# Altium schematic symbol library OpenVizsla symbols.SchLib: 33 symbols
Pins are listed as number, name and electrical type; pins without a type are passive.

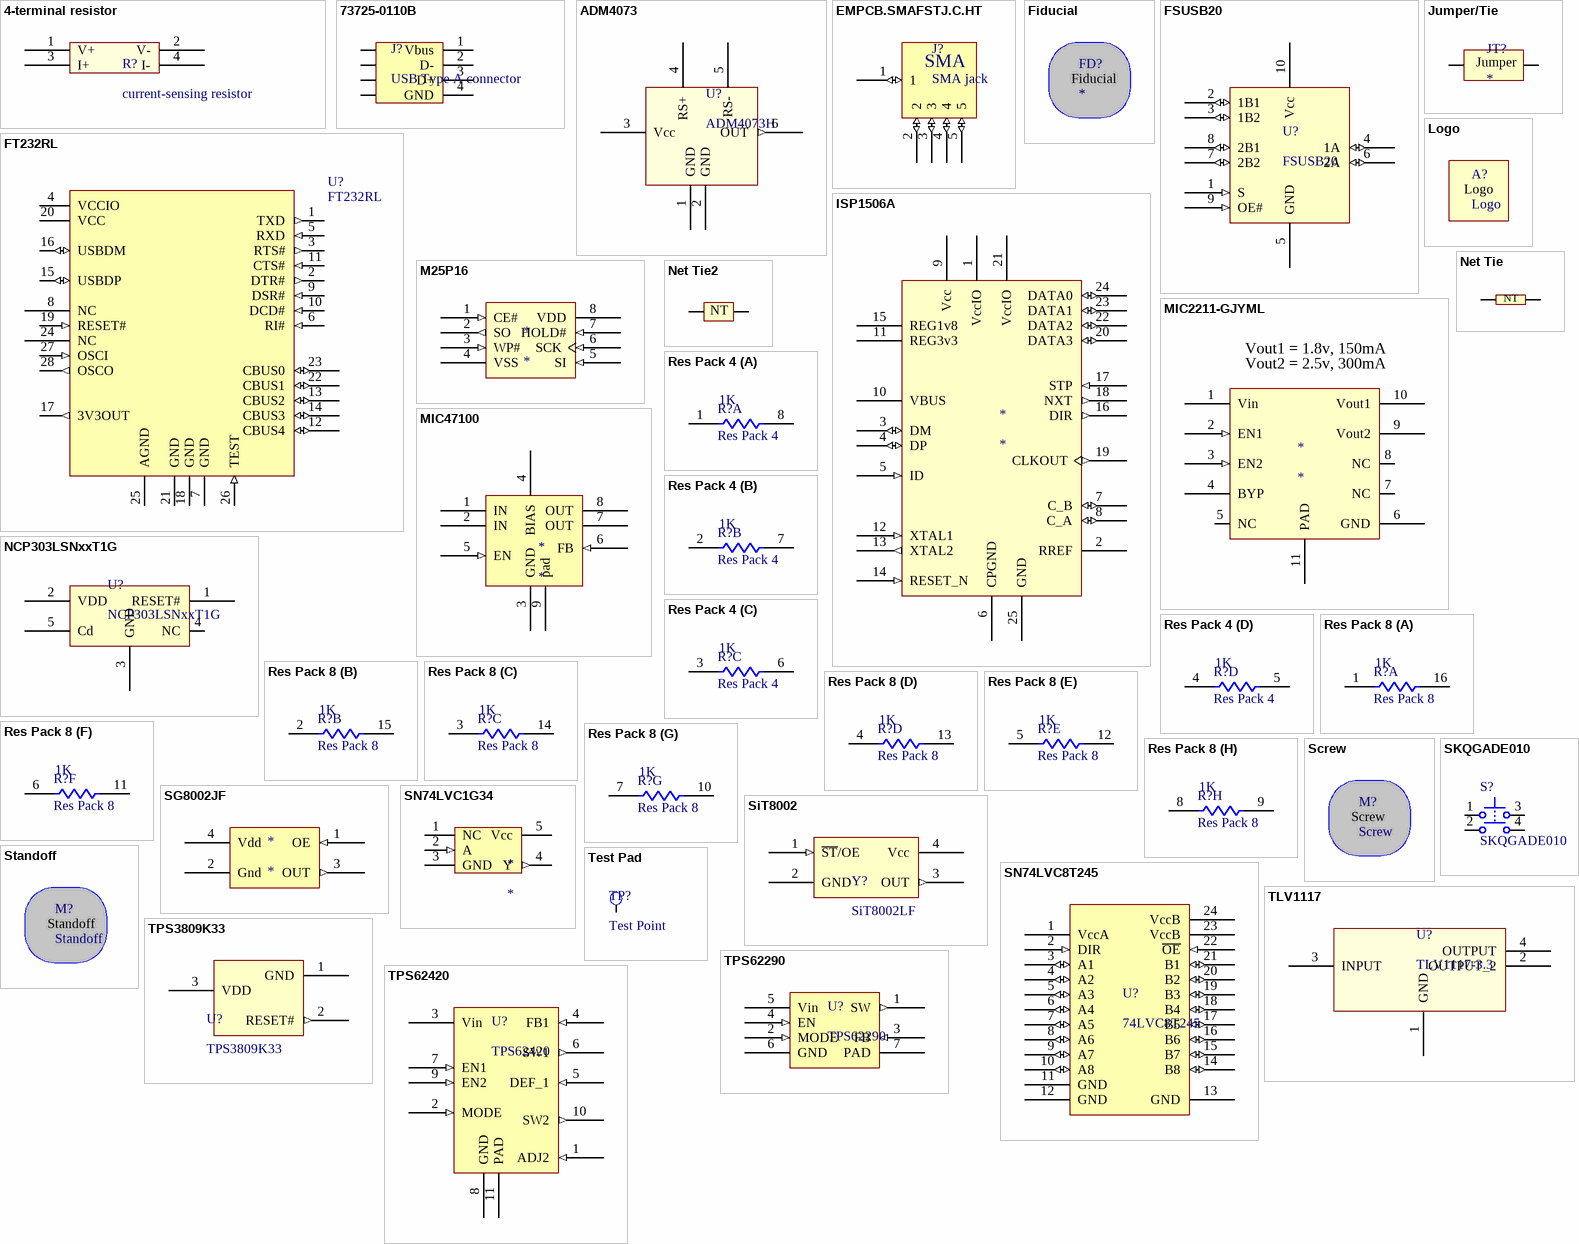
[diagram p0: symbols 4-terminal resistor to TPS62420]

## 4-terminal resistor
designator R?, comment current-sensing resistor
ComponentLink1Description: Manufacturer Link; ComponentLink2Description: Datasheet; ComponentLink2URL: http://www.ohmite.com/catalog/pdf/lvk.pdf; DigiKey Link: http://search.digikey.com/scripts/DkSearch/dksus.dll?Detail&name=LVK12R024FERCT-ND; DigiKey Price/100: 0.36; Mouser Link: http://www.mouser.com/ProductDetail/Ohmite/LVK12R024FER/?qs=o85cWoxxEjHTZDRqGrK2Qw%3d%3d; Mouser Price/100: 0.36
footprint LVK12 (4-terminal current-sensing chip resistor)
pins: 1 V+ (power), 2 V- (power), 3 I+, 4 I-

## 73725-0110B
designator J?, comment USB Type A connector
USB Type A receptacle, right angle vertical mount; ComponentLink1Description: Manufacturer Link; ComponentLink1URL: http://portal.fciconnect.com/portal/page/portal/FcicntPublic/ComergentConnect?appname=catDisplayStyle$domProductQueryName=73725-0110BLF*$OP=search; ComponentLink2Description: Datasheet; ComponentLink2URL: http://portal.fciconnect.com/res/en/pdffiles/doc_search/73725.pdf; DigiKey Link: http://search.digikey.com/scripts/DkSearch/dksus.dll?vendor=0&keywords=73725-0110BLF; DigiKey Price/100: 0.5290; Mouser Link: http://www.mouser.com/ProductDetail/FCI/73725-0110BLF/?qs=x6EjVpvqMVP%252baDTVID3rTA%3D%3D; Mouser Price/100: 0.47
footprint 73725-0110B (Connector; USB2.0, Type A, Thru-Hole; 4 Position; Right Angle; Vertical)
pins: 1 Vbus, 2 D-, 3 D+, 4 GND, 5 shield, 6 shield, 7 shield, 8 shield

## ADM4073
designator U?, comment ADM4073H
ComponentLink1Description: Manufacturer Link; ComponentLink2Description: Datasheet
footprint SOT-23_A (SOT-457/SC-74; 6 Leads; Body 3.1 x 3 mm, inc. leads (LxW max))
pins: 1 GND (power), 2 GND (power), 3 Vcc (power), 4 RS+ (power), 5 RS- (power), 6 OUT (out)

## EMPCB.SMAFSTJ.C.HT
designator J?, comment SMA jack
PCB edge mount SMA jack
footprint EMPCB.SMAFSTJ.C.HT
pins: 1 (io), 2 (io), 3 (io), 4 (io), 5 (io)
text: SMA

## Fiducial
designator FD?  (no BOM)
footprint fiducial

## FSUSB20
designator U?
ComponentLink1Description: Manufacturer Link; ComponentLink2Description: Datasheet
pins: 1 S (in), 2 1B1 (io), 3 1B2 (io), 4 1A (io), 5 GND (power), 6 2A (io), 7 2B2 (io), 8 2B1 (io), 9 OE# (in), 10 Vcc (power)

## FT232RL
designator U?
USB UART Asynchronous Serial Data Transfer Chip, LQFP-32, Pb-Free; Published: 6-Oct-2005; LatestRevisionDate: 13-Apr-2006; LatestRevisionNote: IPC-7351 Footprint Added.; DatasheetVersion: ver 1.7, Feb-2005; PackageVersion: Mar-2004; PackageReference: LQFP-32; Publisher: Altium Limited; PackageDescription: 32-Pin Thin Quad Flat Pack 0.8 mm Pitch; ComponentLink1Description: Manufacturer Link; ComponentLink1URL: http://www.ftdichip.com/Products/FT232BM.htm; ComponentLink2Description: Datasheet; ComponentLink2URL: http://www.ftdichip.com/Documents/DataSheets/ds232bl17.pdf
pins: 1 TXD (out), 2 DTR# (out), 3 RTS# (out), 4 VCCIO (power), 5 RXD (in), 6 RI# (in), 7 GND (power), 8 NC, 9 DSR# (in), 10 DCD# (in), 11 CTS# (in), 12 CBUS4 (io), 13 CBUS2 (io), 14 CBUS3 (io), 15 USBDP (io), 16 USBDM (io), 17 3V3OUT (out), 18 GND (power), 19 RESET# (in), 20 VCC (power), 21 GND (power), 22 CBUS1 (io), 23 CBUS0 (io), 24 NC, 25 AGND (power), 26 TEST (in), 27 OSCI (in), 28 OSCO (out)

## ISP1506A
designator *
ComponentLink1Description: Manufacturer Link; ComponentLink2Description: Datasheet
pins: 1 VccIO (power), 2 RREF, 3 DM (io), 4 DP (io), 5 ID (in), 6 CPGND (power), 7 C_B (io), 8 C_A (io), 9 Vcc (power), 10 VBUS (power), 11 REG3v3 (power), 12 XTAL1 (in), 13 XTAL2 (out), 14 RESET_N (in), 15 REG1v8 (power), 16 DIR (out), 17 STP (in), 18 NXT (out), 19 CLKOUT (out), 20 DATA3 (io), 21 VccIO (power), 22 DATA2 (io), 23 DATA1 (io), 24 DATA0 (io), 25 GND (power)

## Jumper/Tie
designator JT?  (net tie, no BOM)
footprint Jumper/Tie (Jumper / Net Tie)
pins: 1, 2
text: Jumper

## Logo
designator A?  (no BOM)
a silkscreen logo
footprint Altium logo (Altium logo (lines))
footprint CC-BY-NC-SA (Creative Commons Attribution/Non-Commercial/Share-Alike)

## M25P16
designator *
ComponentLink1Description: Manufacturer Link; ComponentLink2Description: Datasheet
pins: 1 CE# (in), 2 SO (out), 3 WP# (in), 4 VSS (power), 5 SI (in), 6 SCK (in), 7 HOLD# (in), 8 VDD (power)

## MIC2211-GJYML
designator *
ComponentLink1Description: Manufacturer Link; ComponentLink2Description: Datasheet
pins: 1 Vin (power), 2 EN1 (in), 3 EN2 (in), 4 BYP, 5 NC (hiz), 6 GND (power), 7 NC (hiz), 8 NC (hiz), 9 Vout2 (power), 10 Vout1 (power), 11 PAD (power)
text: Vout1 = 1.8v, 150mA; Vout2 = 2.5v, 300mA

## MIC47100
designator *
footprint QFN50P200X200X90-8N (QFN, 8-Leads, Body 2.0x2.0mm (max), Pitch 0.50mm, IPC Medium Density)
pins: 1 IN (power), 2 IN (power), 3 GND (power), 4 BIAS (power), 5 EN (in), 6 FB (in), 7 OUT (power), 8 OUT (power), 9 pad (power)

## NCP303LSNxxT1G
designator U?
ComponentLink1Description: Manufacturer Link; ComponentLink2Description: Datasheet
footprint SOT23-5AN (SOT23, 5-Leads, Body 2.9x1.6mm, Pitch 0.95mm, Lead Span 2.8mm, IPC Medium Density)
pins: 1 RESET# (oc), 2 VDD (power), 3 GND (power), 4 NC (hiz), 5 Cd

## Net Tie
designator NT?  (value not drawn)  (net tie, no BOM)
Tiny Net Tie to connect 2 different nets
footprint Tie Point (Connects two nets together, electrically)
pins: 1, 2
text: NT

## Net Tie2
designator NT?  (value not drawn)  (net tie, no BOM)
0603 Net Tie to connect 2 different nets
footprint NetTie 0603 (0603-footprint Net Tie)
pins: 1, 2
text: NT

## Res Pack 4
designator R?  value 1K
Isolated Resistor Network - Parts; Sim Note: Enter the Resistance value into parameter field.; Published: 24-Mar-1999; LatestRevisionDate: 29-May-2009; LatestRevisionNote: IPC-7351 Footprint Added.; PackageReference: SOIC16; Publisher: Altium Limited; PackageDescription: 16-Pin Small Outline Integrated Circuit 1.27 mm Pitch; Code_JEDEC: MS-012-AC; Code_IPC: SOIC127P600-16; ComponentLink1Description: Manufacturer Link; ComponentLink2Description: Datasheet
simulation model RESISTOR (Resistor)
signal-integrity model Res Pack
footprint 741X083 (741X083 quad resistor array 2mm x 1mm)
part A pins: 1, 8
part B pins: 2, 7
part C pins: 3, 6
part D pins: 4, 5

## Res Pack 8
designator R?  value 1K
Isolated Resistor Network - Parts; Sim Note: Enter the Resistance value into parameter field.; Published: 24-Mar-1999; LatestRevisionDate: 29-May-2009; LatestRevisionNote: IPC-7351 Footprint Added.; PackageReference: SOIC16; Publisher: Altium Limited; PackageDescription: 16-Pin Small Outline Integrated Circuit 1.27 mm Pitch; Code_JEDEC: MS-012-AC; Code_IPC: SOIC127P600-16; ComponentLink1Description: Manufacturer Link; ComponentLink2Description: Datasheet
simulation model RESISTOR (Resistor)
signal-integrity model Res Pack
footprint MNR18 (8-element chip resistor array (0602x8))
part A pins: 1, 16
part B pins: 2, 15
part C pins: 3, 14
part D pins: 4, 13
part E pins: 5, 12
part F pins: 6, 11
part G pins: 7, 10
part H pins: 8, 9

## Screw
designator M?  (no BOM)
footprint fiducial

## SG8002JF
designator *
ComponentLink1Description: Manufacturer Link; ComponentLink2Description: Datasheet
pins: 1 OE (in), 2 Gnd (power), 3 OUT (out), 4 Vdd (power)

## SiT8002
designator Y?, comment SiT8002LF
Programmable Oscillator; ComponentLink1Description: Manufacturer Link; ComponentLink2Description: Datasheet
footprint SiT8002LF 7x5mm oscillator
pins: 1 ~{ST}/OE (in), 2 GND (power), 3 OUT (out), 4 Vcc (power)

## SKQGADE010
designator S?
Tactile Switch, DPST; Thru-Hole; Vertical; Rating DC 12V, 50mA (max); PackageDocument: Rev.0; Published: 6-Jun-2005; DatasheetDocument: Rev.0; PackageReference: IT-2175; Publisher: Altium Limited; ComponentLink1Description: Manufacturer Link; ComponentLink1URL: http://www.ilswitch.com/; ComponentLink2Description: Device Overview; ComponentLink2URL: http://www.ilswitch.com/list.php?ac_id=010112&ai_id=91
footprint SKQGADE010 (Alps Tact switch)
pins: 1, 2, 3, 4

## SN74LVC1G34
designator *
footprint SOT95P280X145-5N (SOT23, 5-Leads, Body 3.0x3.0mm (max), Pitch 0.95mm, IPC Medium Density)
pins: 1 NC, 2 A (in), 3 GND (power), 4 Y (out), 5 Vcc (power)

## SN74LVC8T245
designator U?, comment 74LVC8T245
8-Bit Dual-Supply Bus Transceiver with Configurable Voltage Translation and Three-State Outputs
footprint SOIC127P1030X265-24N (SOIC, 24-Leads, Body 15.6x7.6mm (max), Pitch 1.27mm, IPC Medium Density)
pins: 1 VccA (power), 2 DIR (in), 3 A1 (io), 4 A2 (io), 5 A3 (io), 6 A4 (io), 7 A5 (io), 8 A6 (io), 9 A7 (io), 10 A8 (io), 11 GND (power), 12 GND (power), 13 GND (power), 14 B8 (io), 15 B7 (io), 16 B6 (io), 17 B5 (io), 18 B4 (io), 19 B3 (io), 20 B2 (io), 21 B1 (io), 22 ~{OE} (in), 23 VccB (power), 24 VccB (power)

## Standoff
designator M?  (no BOM)
footprint fiducial

## Test Pad
designator TP?, comment Test Point  (no BOM)
PCB test point
footprint testpoint-30mil (30mil testpoint)
footprint testpoint-60mil (30mil testpoint)
pins: 1 pin

## TLV1117
designator U?, comment TLV1117-3.3
footprint DCY4
pins: 1 GND (power), 2 OUTPUT_2 (power), 3 INPUT (power), 4 OUTPUT (power)

## TPS3809K33
designator U?
ComponentLink1Description: Manufacturer Link; ComponentLink2Description: Datasheet
pins: 1 GND (power), 2 RESET# (out), 3 VDD (power)

## TPS62290
designator U?
ComponentLink1Description: Manufacturer Link; ComponentLink2Description: Datasheet
pins: 1 SW (out), 2 MODE (in), 3 FB (in), 4 EN (in), 5 Vin (power), 6 GND (power), 7 PAD (power)

## TPS62420
designator U?
2.25MHz 600mA/1000mA Dual Step Down Converter; ComponentLink1Description: Manufacturer Link; ComponentLink2Description: Datasheet; DigiKey Link: http://search.digikey.com/scripts/DkSearch/dksus.dll?Detail&name=296-25650-1-ND; DigiKey Price/100: 2.86; Mouser Link: http://www.mouser.com/ProductDetail/Texas-Instruments/TPS62420DRCR/?qs=sGAEpiMZZMuXfccvO5DzaqFKAkHCrl1D; Mouser Price/100: 2.81; ComponentLink2URL: http://focus.ti.com/lit/ds/symlink/tps62420.pdf; ComponentLink1URL: http://focus.ti.com/docs/prod/folders/print/tps62420.html
footprint TI 10QFN [DRC (S-PVSON-N10)] (QFN, 10-Leads, Body 3.2x3.2mm (max), Pitch 0.50mm, IPC Medium Density)
pins: 1 ADJ2 (in), 2 MODE (in), 3 Vin (power), 4 FB1 (in), 5 DEF_1 (in), 6 SW1 (out), 7 EN1 (in), 8 GND (power), 9 EN2 (in), 10 SW2 (out), 11 PAD (power)

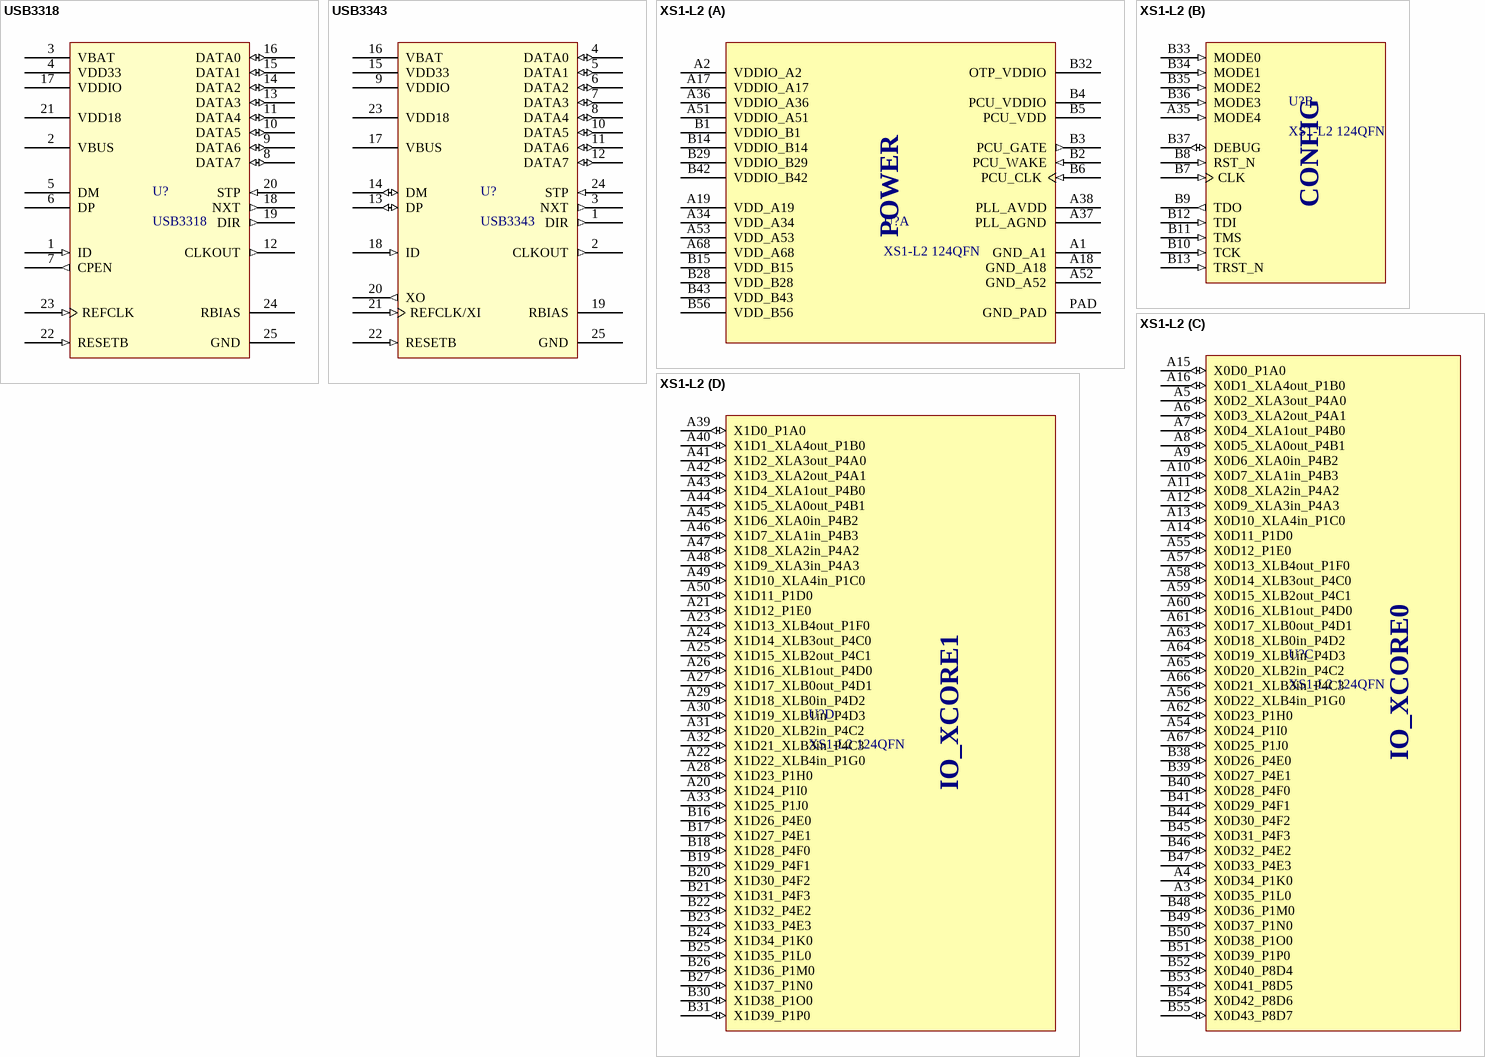
[diagram p1: symbols USB3318 to XS1-L2]

## USB3318
designator U?
Hi-Speed USB Transceiver with 1.8V-3.3V ULPI Interface - 13MHz Reference Clock; ComponentLink1Description: Manufacturer Link; ComponentLink2Description: Datasheet
footprint USB3318 (QFN24) (QFN, 24-Leads, Body 4.2x4.2mm (max), Pitch 0.50mm, IPC Medium Density)
pins: 1 ID (in), 2 VBUS (power), 3 VBAT (power), 4 VDD33 (power), 5 DM (power), 6 DP (power), 7 CPEN (out), 8 DATA7 (io), 9 DATA6 (io), 10 DATA5 (io), 11 DATA4 (io), 12 CLKOUT (out), 13 DATA3 (io), 14 DATA2 (io), 15 DATA1 (io), 16 DATA0 (io), 17 VDDIO (power), 18 NXT (out), 19 DIR (out), 20 STP (in), 21 VDD18 (power), 22 RESETB (in), 23 REFCLK (in), 24 RBIAS, 25 GND (power)

## USB3343
designator U?
Hi-Speed USB Transceiver with 1.8V-3.3V ULPI Interface - MHz Reference Clock
footprint USB3318 (QFN24) (QFN, 24-Leads, Body 4.2x4.2mm (max), Pitch 0.50mm, IPC Medium Density)
footprint SMSC USB334x QFN24
pins: 1 DIR (out), 2 CLKOUT (out), 3 NXT (out), 4 DATA0 (io), 5 DATA1 (io), 6 DATA2 (io), 7 DATA3 (io), 8 DATA4 (io), 9 VDDIO (power), 10 DATA5 (io), 11 DATA6 (io), 12 DATA7 (io), 13 DP (io), 14 DM (io), 15 VDD33 (power), 16 VBAT (power), 17 VBUS (power), 18 ID (in), 19 RBIAS, 20 XO (out), 21 REFCLK/XI (in), 22 RESETB (in), 23 VDD18 (power), 24 STP (in), 25 GND (power)

## XS1-L2
designator U?, comment XS1-L2 124QFN
ComponentLink1Description: Manufacturer Link; ComponentLink2Description: Datasheet
footprint XS1-L2 124QFN (Double Row QFN, 124-Leads, Body 10.2x10.2mm (max), Pitch 0.50mm, IPC Medium Density)
part A pins: A1 GND_A1 (power), A2 VDDIO_A2 (power), A17 VDDIO_A17 (power), A18 GND_A18 (power), A19 VDD_A19 (power), A34 VDD_A34 (power), A36 VDDIO_A36 (power), A37 PLL_AGND (power), A38 PLL_AVDD (power), A51 VDDIO_A51 (power), A52 GND_A52 (power), A53 VDD_A53 (power), A68 VDD_A68 (power), B1 VDDIO_B1 (power), B2 PCU_WAKE (in), B3 PCU_GATE (out), B4 PCU_VDDIO (power), B5 PCU_VDD (power), B6 PCU_CLK (in), B14 VDDIO_B14 (power), B15 VDD_B15 (power), B28 VDD_B28 (power), B29 VDDIO_B29 (power), B32 OTP_VDDIO (power), B42 VDDIO_B42 (power), B43 VDD_B43 (power), B56 VDD_B56 (power), PAD GND_PAD (power)
part B pins: A35 MODE4 (in), B7 CLK (in), B8 RST_N (in), B9 TDO (out), B10 TCK (in), B11 TMS (in), B12 TDI (in), B13 TRST_N (in), B33 MODE0 (in), B34 MODE1 (in), B35 MODE2 (in), B36 MODE3 (in), B37 DEBUG (io)
part C pins: A3 X0D35_P1L0 (io), A4 X0D34_P1K0 (io), A5 X0D2_XLA3out_P4A0 (io), A6 X0D3_XLA2out_P4A1 (io), A7 X0D4_XLA1out_P4B0 (io), A8 X0D5_XLA0out_P4B1 (io), A9 X0D6_XLA0in_P4B2 (io), A10 X0D7_XLA1in_P4B3 (io), A11 X0D8_XLA2in_P4A2 (io), A12 X0D9_XLA3in_P4A3 (io), A13 X0D10_XLA4in_P1C0 (io), A14 X0D11_P1D0 (io), A15 X0D0_P1A0 (io), A16 X0D1_XLA4out_P1B0 (io), A54 X0D24_P1I0 (io), A55 X0D12_P1E0 (io), A56 X0D22_XLB4in_P1G0 (io), A57 X0D13_XLB4out_P1F0 (io), A58 X0D14_XLB3out_P4C0 (io), A59 X0D15_XLB2out_P4C1 (io), A60 X0D16_XLB1out_P4D0 (io), A61 X0D17_XLB0out_P4D1 (io), A62 X0D23_P1H0 (io), A63 X0D18_XLB0in_P4D2 (io), A64 X0D19_XLB1in_P4D3 (io), A65 X0D20_XLB2in_P4C2 (io), A66 X0D21_XLB3in_P4C3 (io), A67 X0D25_P1J0 (io), B38 X0D26_P4E0 (io), B39 X0D27_P4E1 (io), B40 X0D28_P4F0 (io), B41 X0D29_P4F1 (io), B44 X0D30_P4F2 (io), B45 X0D31_P4F3 (io), B46 X0D32_P4E2 (io), B47 X0D33_P4E3 (io), B48 X0D36_P1M0 (io), B49 X0D37_P1N0 (io), B50 X0D38_P1O0 (io), B51 X0D39_P1P0 (io), B52 X0D40_P8D4 (io), B53 X0D41_P8D5 (io), B54 X0D42_P8D6 (io), B55 X0D43_P8D7 (io)
part D pins: A20 X1D24_P1I0 (io), A21 X1D12_P1E0 (io), A22 X1D22_XLB4in_P1G0 (io), A23 X1D13_XLB4out_P1F0 (io), A24 X1D14_XLB3out_P4C0 (io), A25 X1D15_XLB2out_P4C1 (io), A26 X1D16_XLB1out_P4D0 (io), A27 X1D17_XLB0out_P4D1 (io), A28 X1D23_P1H0 (io), A29 X1D18_XLB0in_P4D2 (io), A30 X1D19_XLB1in_P4D3 (io), A31 X1D20_XLB2in_P4C2 (io), A32 X1D21_XLB3in_P4C3 (io), A33 X1D25_P1J0 (io), A39 X1D0_P1A0 (io), A40 X1D1_XLA4out_P1B0 (io), A41 X1D2_XLA3out_P4A0 (io), A42 X1D3_XLA2out_P4A1 (io), A43 X1D4_XLA1out_P4B0 (io), A44 X1D5_XLA0out_P4B1 (io), A45 X1D6_XLA0in_P4B2 (io), A46 X1D7_XLA1in_P4B3 (io), A47 X1D8_XLA2in_P4A2 (io), A48 X1D9_XLA3in_P4A3 (io), A49 X1D10_XLA4in_P1C0 (io), A50 X1D11_P1D0 (io), B16 X1D26_P4E0 (io), B17 X1D27_P4E1 (io), B18 X1D28_P4F0 (io), B19 X1D29_P4F1 (io), B20 X1D30_P4F2 (io), B21 X1D31_P4F3 (io), B22 X1D32_P4E2 (io), B23 X1D33_P4E3 (io), B24 X1D34_P1K0 (io), B25 X1D35_P1L0 (io), B26 X1D36_P1M0 (io), B27 X1D37_P1N0 (io), B30 X1D38_P1O0 (io), B31 X1D39_P1P0 (io)
part A text: POWER
part B text: CONFIG
part C text: IO_XCORE0
part D text: IO_XCORE1